# Altium integrated library NXP Semiconductors Standard MOSFETs.IntLib: 477 symbols (part 6 of 14)
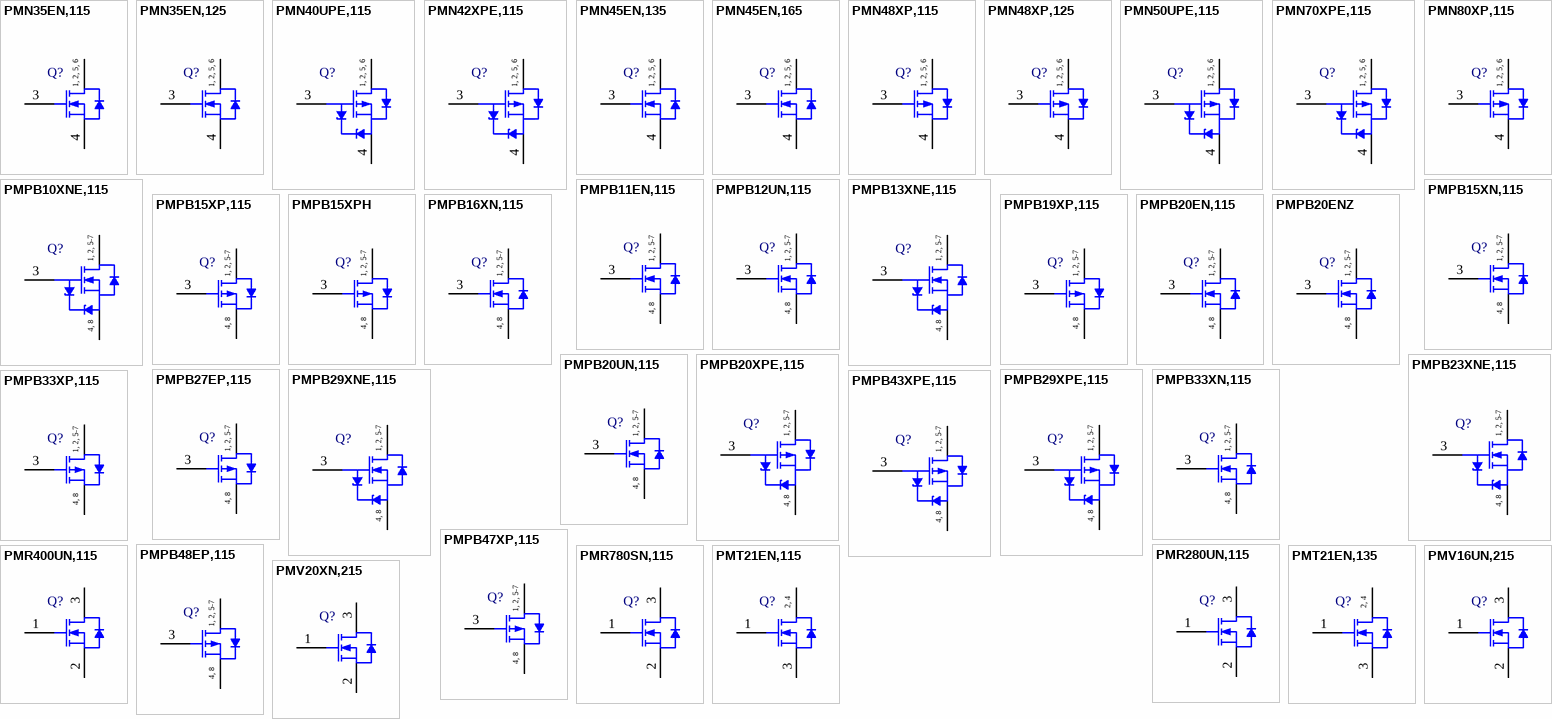
[diagram p17: symbols PMN35EN,115 to PMV20XN,215]

## PMN40UPE,115
designator Q?
Single P-Channel Trench MOSFET, -20 V, -55 to 150 degC, 6-Pin SOT457, Tape and Reel; Manufacturer: NXP Semiconductors; PartNumber: PMN40UPE,115; Channel Type: P; Ciss [typ] (pF): 1820; Coss [typ] (pF): 207; Packing: Tape & Reel; VGSth [typ] (V): -0.7; DatasheetVersion: Rev. 1; PackageVersion: 06-03-16, 03/2006; PackageReference: SOT457; PackageDescription: 6-Pin Thin Small Outline Package, Body 2.9 x 1.5 mm, Pitch 0.95 mm; Supplier 1: Digi-Key; Supplier Part Number 1: 568-10801-2-ND; Supplier 2: Digi-Key; Supplier Part Number 2: 568-10801-1-ND; Supplier 3: Digi-Key; Supplier Part Number 3: 568-10801-6-ND; Supplier 4: Mouser; Supplier Part Number 4: 771-PMN40UPE115; VDS [max] (V): -20; Mounting Technology: Surface Mount; Code_JEITA: SC-74; ComponentLink1Description: Manufacturer URL; ComponentLink1URL: http://www.nxp.com/; ComponentLink2Description: Datasheet; ComponentLink2URL: http://www.nxp.com/documents/data_sheet/PMN40UPE.pdf; ComponentLink3Description: Package Specification; ComponentLink3URL: http://www.nxp.com/documents/outline_drawing/sot457_po.pdf
footprint NXP-SOT457_N (SOP, 6-Leads, Body 3.1x1.7mm, Pitch 0.95mm, IPC Medium Density)
footprint NXP-SOT457_L (SOP, 6-Leads, Body 3.1x1.7mm, Pitch 0.95mm, IPC High Density)
footprint NXP-SOT457_M (SOP, 6-Leads, Body 3.1x1.7mm, Pitch 0.95mm, IPC Low Density)
pins: 1 D "drain", 2 D "drain", 3 G "gate", 4 S "source", 5 D "drain", 6 D "drain"
text: 1, 2, 5, 6

## PMN42XPE,115
designator Q?
Single P-Channel Trench MOSFET, -20 V, -55 to 150 degC, 6-Pin SOT457, Tape and Reel; Manufacturer: NXP Semiconductors; PartNumber: PMN42XPE,115; Channel Type: P; Ciss [typ] (pF): 1410; Coss [typ] (pF): 207; Packing: Tape & Reel; VGSth [typ] (V): -1; DatasheetVersion: Rev. 1; PackageVersion: 06-03-16, 03/2006; PackageReference: SOT457; PackageDescription: 6-Pin Thin Small Outline Package, Body 2.9 x 1.5 mm, Pitch 0.95 mm; Supplier 1: Digi-Key; Supplier Part Number 1: 568-10802-2-ND; Supplier 2: Digi-Key; Supplier Part Number 2: 568-10802-1-ND; Supplier 3: Digi-Key; Supplier Part Number 3: 568-10802-6-ND; Supplier 4: Mouser; Supplier Part Number 4: 771-PMN42XPE115; VDS [max] (V): -20; Mounting Technology: Surface Mount; Code_JEITA: SC-74; ComponentLink1Description: Manufacturer URL; ComponentLink1URL: http://www.nxp.com/; ComponentLink2Description: Datasheet; ComponentLink2URL: http://www.nxp.com/documents/data_sheet/PMN42XPE.pdf; ComponentLink3Description: Package Specification; ComponentLink3URL: http://www.nxp.com/documents/outline_drawing/sot457_po.pdf
footprint NXP-SOT457_N (SOP, 6-Leads, Body 3.1x1.7mm, Pitch 0.95mm, IPC Medium Density)
footprint NXP-SOT457_L (SOP, 6-Leads, Body 3.1x1.7mm, Pitch 0.95mm, IPC High Density)
footprint NXP-SOT457_M (SOP, 6-Leads, Body 3.1x1.7mm, Pitch 0.95mm, IPC Low Density)
pins: 1 D "drain", 2 D "drain", 3 G "gate", 4 S "source", 5 D "drain", 6 D "drain"
text: 1, 2, 5, 6

## PMN45EN,135
designator Q?
N-Channel TrenchMOS(TM) Enhanced Logic Level FET, 30 V, 5.2 A, 6-Pin SOT457, Tape and Reel; Manufacturer: NXP Semiconductors; PartNumber: PMN45EN,135; Channel Type: N; Ciss [typ] (pF): 495; Coss [typ] (pF): 100; ID [max] (A): 5.2; Packing: Tape & Reel; VDS [max] (V): 30; VGSth [typ] (V): 1.5; DatasheetVersion: Rev. 01; PackageVersion: 06-03-16, 03/2006; PackageReference: SOT457; PackageDescription: 6-Pin Thin Small Outline Package, Body 2.9 x 1.5 mm, Pitch 0.95 mm; Supplier 1: Digi-Key; Supplier Part Number 1: 568-7423-2-ND; Supplier 2: Digi-Key; Supplier Part Number 2: 568-7423-1-ND; Supplier 3: Digi-Key; Supplier Part Number 3: 568-7423-6-ND; Supplier 4: Farnell; Supplier Part Number 4: 1758108; Supplier 5: Newark; Supplier Part Number 5: 79R2039; Supplier 6: Mouser; Supplier Part Number 6: 771-PMN45EN135; Mounting Technology: Surface Mount; Code_JEITA: SC-74; ComponentLink1Description: Manufacturer URL; ComponentLink1URL: http://www.nxp.com/; ComponentLink2Description: Datasheet; ComponentLink2URL: http://www.nxp.com/documents/data_sheet/PMN45EN.pdf; ComponentLink3Description: Package Specification; ComponentLink3URL: http://www.nxp.com/documents/outline_drawing/sot457_po.pdf
footprint NXP-SOT457_N (SOP, 6-Leads, Body 3.1x1.7mm, Pitch 0.95mm, IPC Medium Density)
footprint NXP-SOT457_L (SOP, 6-Leads, Body 3.1x1.7mm, Pitch 0.95mm, IPC High Density)
footprint NXP-SOT457_M (SOP, 6-Leads, Body 3.1x1.7mm, Pitch 0.95mm, IPC Low Density)
pins: 1 D "drain", 2 D "drain", 3 G "gate", 4 S "source", 5 D "drain", 6 D "drain"
text: 1, 2, 5, 6

## PMN45EN,165
designator Q?
N-Channel TrenchMOS(TM) Enhanced Logic Level FET, 30 V, 5.2 A, 6-Pin SOT457, Tape and Reel; Manufacturer: NXP Semiconductors; PartNumber: PMN45EN,165; Channel Type: N; Ciss [typ] (pF): 495; Coss [typ] (pF): 100; ID [max] (A): 5.2; Packing: Tape & Reel; VDS [max] (V): 30; VGSth [typ] (V): 1.5; DatasheetVersion: Rev. 01; PackageVersion: 06-03-16, 03/2006; PackageReference: SOT457; PackageDescription: 6-Pin Thin Small Outline Package, Body 2.9 x 1.5 mm, Pitch 0.95 mm; Supplier 1: Digi-Key; Supplier Part Number 1: PMN45EN,165-ND; Supplier 2: Mouser; Supplier Part Number 2: 771-PMN45EN165; Mounting Technology: Surface Mount; Code_JEITA: SC-74; ComponentLink1Description: Manufacturer URL; ComponentLink1URL: http://www.nxp.com/; ComponentLink2Description: Datasheet; ComponentLink2URL: http://www.nxp.com/documents/data_sheet/PMN45EN.pdf; ComponentLink3Description: Package Specification; ComponentLink3URL: http://www.nxp.com/documents/outline_drawing/sot457_po.pdf
footprint NXP-SOT457_N (SOP, 6-Leads, Body 3.1x1.7mm, Pitch 0.95mm, IPC Medium Density)
footprint NXP-SOT457_L (SOP, 6-Leads, Body 3.1x1.7mm, Pitch 0.95mm, IPC High Density)
footprint NXP-SOT457_M (SOP, 6-Leads, Body 3.1x1.7mm, Pitch 0.95mm, IPC Low Density)
pins: 1 D "drain", 2 D "drain", 3 G "gate", 4 S "source", 5 D "drain", 6 D "drain"
text: 1, 2, 5, 6

## PMN48XP,115
designator Q?
P-Channel Trench MOSFET, -20 V, -4.1 A, -55 to 150 degC, 6-Pin SOT457, Tape and Reel; Manufacturer: NXP Semiconductors; PartNumber: PMN48XP,115; Channel Type: P; Ciss [typ] (pF): 1000; Coss [typ] (pF): 130; Packing: Tape & Reel; VGSth [typ] (V): -1; DatasheetVersion: Rev. 1; PackageVersion: 06-03-16, 03/2006; PackageReference: SOT457; PackageDescription: 6-Pin Thin Small Outline Package, Body 2.9 x 1.5 mm, Pitch 0.95 mm; Supplier 1: Digi-Key; Supplier Part Number 1: 568-8412-2-ND; Supplier 2: Digi-Key; Supplier Part Number 2: 568-8412-1-ND; Supplier 3: Digi-Key; Supplier Part Number 3: 568-8412-6-ND; Supplier 4: Mouser; Supplier Part Number 4: 771-PMN48XP115; ID [max] (A): -4.1; VDS [max] (V): -20; Mounting Technology: Surface Mount; Code_JEITA: SC-74; ComponentLink1Description: Manufacturer URL; ComponentLink1URL: http://www.nxp.com/; ComponentLink2Description: Datasheet; ComponentLink2URL: http://www.nxp.com/documents/data_sheet/PMN48XP.pdf; ComponentLink3Description: Package Specification; ComponentLink3URL: http://www.nxp.com/documents/outline_drawing/sot457_po.pdf
footprint NXP-SOT457_N (SOP, 6-Leads, Body 3.1x1.7mm, Pitch 0.95mm, IPC Medium Density)
footprint NXP-SOT457_L (SOP, 6-Leads, Body 3.1x1.7mm, Pitch 0.95mm, IPC High Density)
footprint NXP-SOT457_M (SOP, 6-Leads, Body 3.1x1.7mm, Pitch 0.95mm, IPC Low Density)
pins: 1 D "drain", 2 D "drain", 3 G "gate", 4 S "source", 5 D "drain", 6 D "drain"
text: 1, 2, 5, 6

## PMN48XP,125
designator Q?
P-Channel Trench MOSFET, -20 V, -4.1 A, -55 to 150 degC, 6-Pin SOT457, Tape and Reel; Manufacturer: NXP Semiconductors; PartNumber: PMN48XP,125; Channel Type: P; Ciss [typ] (pF): 1000; Coss [typ] (pF): 130; Packing: Tape & Reel; VGSth [typ] (V): -1; DatasheetVersion: Rev. 1; PackageVersion: 06-03-16, 03/2006; PackageReference: SOT457; PackageDescription: 6-Pin Thin Small Outline Package, Body 2.9 x 1.5 mm, Pitch 0.95 mm; Supplier 1: Digi-Key; Supplier Part Number 1: 568-10803-2-ND; Supplier 2: Digi-Key; Supplier Part Number 2: 568-10803-1-ND; Supplier 3: Digi-Key; Supplier Part Number 3: 568-10803-6-ND; Supplier 4: Mouser; Supplier Part Number 4: 771-PMN48XP,125; ID [max] (A): -4.1; VDS [max] (V): -20; Mounting Technology: Surface Mount; Code_JEITA: SC-74; ComponentLink1Description: Manufacturer URL; ComponentLink1URL: http://www.nxp.com/; ComponentLink2Description: Datasheet; ComponentLink2URL: http://www.nxp.com/documents/data_sheet/PMN48XP.pdf; ComponentLink3Description: Package Specification; ComponentLink3URL: http://www.nxp.com/documents/outline_drawing/sot457_po.pdf
footprint NXP-SOT457_N (SOP, 6-Leads, Body 3.1x1.7mm, Pitch 0.95mm, IPC Medium Density)
footprint NXP-SOT457_L (SOP, 6-Leads, Body 3.1x1.7mm, Pitch 0.95mm, IPC High Density)
footprint NXP-SOT457_M (SOP, 6-Leads, Body 3.1x1.7mm, Pitch 0.95mm, IPC Low Density)
pins: 1 D "drain", 2 D "drain", 3 G "gate", 4 S "source", 5 D "drain", 6 D "drain"
text: 1, 2, 5, 6

## PMN50UPE,115
designator Q?
Single P-Channel Trench MOSFET, -20 V, -55 to 150 degC, 6-Pin SOT457, Tape and Reel; Manufacturer: NXP Semiconductors; PartNumber: PMN50UPE,115; Channel Type: P; Ciss [typ] (pF): 24; Coss [typ] (pF): 106; Packing: Tape & Reel; VGSth [typ] (V): -0.6; DatasheetVersion: Rev. 1; PackageVersion: 06-03-16, 03/2006; PackageReference: SOT457; PackageDescription: 6-Pin Thin Small Outline Package, Body 2.9 x 1.5 mm, Pitch 0.95 mm; Supplier 1: Digi-Key; Supplier Part Number 1: 568-10804-2-ND; Supplier 2: Digi-Key; Supplier Part Number 2: 568-10804-1-ND; Supplier 3: Digi-Key; Supplier Part Number 3: 568-10804-6-ND; Supplier 4: Mouser; Supplier Part Number 4: 771-PMN50UPE115; VDS [max] (V): -20; Mounting Technology: Surface Mount; Code_JEITA: SC-74; ComponentLink1Description: Manufacturer URL; ComponentLink1URL: http://www.nxp.com/; ComponentLink2Description: Datasheet; ComponentLink2URL: http://www.nxp.com/documents/data_sheet/PMN50UPE.pdf; ComponentLink3Description: Package Specification; ComponentLink3URL: http://www.nxp.com/documents/outline_drawing/sot457_po.pdf
footprint NXP-SOT457_N (SOP, 6-Leads, Body 3.1x1.7mm, Pitch 0.95mm, IPC Medium Density)
footprint NXP-SOT457_L (SOP, 6-Leads, Body 3.1x1.7mm, Pitch 0.95mm, IPC High Density)
footprint NXP-SOT457_M (SOP, 6-Leads, Body 3.1x1.7mm, Pitch 0.95mm, IPC Low Density)
pins: 1 D "drain", 2 D "drain", 3 G "gate", 4 S "source", 5 D "drain", 6 D "drain"
text: 1, 2, 5, 6

## PMN70XPE,115
designator Q?
Single P-Channel Trench MOSFET, -20 V, -55 to 150 degC, 6-Pin SOT457, Tape and Reel; Manufacturer: NXP Semiconductors; PartNumber: PMN70XPE,115; Channel Type: P; Ciss [typ] (pF): 602; Coss [typ] (pF): 101; Packing: Tape & Reel; VGSth [typ] (V): -1; DatasheetVersion: Rev. 1; PackageVersion: 06-03-16, 03/2006; PackageReference: SOT457; PackageDescription: 6-Pin Thin Small Outline Package, Body 2.9 x 1.5 mm, Pitch 0.95 mm; Supplier 1: Digi-Key; Supplier Part Number 1: 568-10805-2-ND; Supplier 2: Digi-Key; Supplier Part Number 2: 568-10805-1-ND; Supplier 3: Digi-Key; Supplier Part Number 3: 568-10805-6-ND; Supplier 4: Mouser; Supplier Part Number 4: 771-PMN70XPE115; VDS [max] (V): -20; Mounting Technology: Surface Mount; Code_JEITA: SC-74; ComponentLink1Description: Manufacturer URL; ComponentLink1URL: http://www.nxp.com/; ComponentLink2Description: Datasheet; ComponentLink2URL: http://www.nxp.com/documents/data_sheet/PMN70XPE.pdf; ComponentLink3Description: Package Specification; ComponentLink3URL: http://www.nxp.com/documents/outline_drawing/sot457_po.pdf
footprint NXP-SOT457_N (SOP, 6-Leads, Body 3.1x1.7mm, Pitch 0.95mm, IPC Medium Density)
footprint NXP-SOT457_L (SOP, 6-Leads, Body 3.1x1.7mm, Pitch 0.95mm, IPC High Density)
footprint NXP-SOT457_M (SOP, 6-Leads, Body 3.1x1.7mm, Pitch 0.95mm, IPC Low Density)
pins: 1 D "drain", 2 D "drain", 3 G "gate", 4 S "source", 5 D "drain", 6 D "drain"
text: 1, 2, 5, 6

## PMN80XP,115
designator Q?
Single P-Channel Trench MOSFET, -20 V, -55 to 150 degC, 6-Pin SOT457, Tape and Reel; Manufacturer: NXP Semiconductors; PartNumber: PMN80XP,115; Channel Type: P; Ciss [typ] (pF): 550; Coss [typ] (pF): 63; Packing: Tape & Reel; VGSth [typ] (V): -0.75; DatasheetVersion: Rev. 1; PackageVersion: 06-03-16, 03/2006; PackageReference: SOT457; PackageDescription: 6-Pin Thin Small Outline Package, Body 2.9 x 1.5 mm, Pitch 0.95 mm; Supplier 1: Digi-Key; Supplier Part Number 1: 568-10806-2-ND; Supplier 2: Digi-Key; Supplier Part Number 2: 568-10806-1-ND; Supplier 3: Digi-Key; Supplier Part Number 3: 568-10806-6-ND; Supplier 4: Mouser; Supplier Part Number 4: 771-PMN80XP,115; VDS [max] (V): -20; Mounting Technology: Surface Mount; Code_JEITA: SC-74; ComponentLink1Description: Manufacturer URL; ComponentLink1URL: http://www.nxp.com/; ComponentLink2Description: Datasheet; ComponentLink2URL: http://www.nxp.com/documents/data_sheet/PMN80XP.pdf; ComponentLink3Description: Package Specification; ComponentLink3URL: http://www.nxp.com/documents/outline_drawing/sot457_po.pdf
footprint NXP-SOT457_N (SOP, 6-Leads, Body 3.1x1.7mm, Pitch 0.95mm, IPC Medium Density)
footprint NXP-SOT457_L (SOP, 6-Leads, Body 3.1x1.7mm, Pitch 0.95mm, IPC High Density)
footprint NXP-SOT457_M (SOP, 6-Leads, Body 3.1x1.7mm, Pitch 0.95mm, IPC Low Density)
pins: 1 D "drain", 2 D "drain", 3 G "gate", 4 S "source", 5 D "drain", 6 D "drain"
text: 1, 2, 5, 6

## PMPB10XNE,115
designator Q?
Single N-Channel Trench MOSFET, 20 V, -55 to 150 degC, 8-Pin SOT1220, Reel; Manufacturer: NXP Semiconductors; PartNumber: PMPB10XNE,115; Channel Type: N; Ciss [typ] (pF): 2175; Coss [typ] (pF): 235; VDS [max] (V): 20; VGSth [typ] (V): 0.65; DatasheetVersion: Rev. 1; PackageVersion: 12-04-30, 04/2012; PackageReference: SOT1220; PackageDescription: 6-Pin Small Outline No-Lead, Body 2 x 2 mm, Pitch 0.65 mm; Supplier 1: Digi-Key; Supplier Part Number 1: 568-10807-2-ND; Supplier 2: Digi-Key; Supplier Part Number 2: 568-10807-1-ND; Supplier 3: Digi-Key; Supplier Part Number 3: 568-10807-6-ND; Supplier 4: Newark; Supplier Part Number 4: 70W0371; Supplier 5: Mouser; Supplier Part Number 5: 771-PMPB10XNE115; Packing: Reel; Mounting Technology: Surface Mount; ComponentLink1Description: Manufacturer URL; ComponentLink1URL: http://www.nxp.com/; ComponentLink2Description: Datasheet; ComponentLink2URL: http://www.nxp.com/documents/data_sheet/PMPB10XNE.pdf; ComponentLink3Description: Package Specification; ComponentLink3URL: http://www.nxp.com/documents/outline_drawing/sot1220_po.pdf
footprint NXP-SOT1220_N (SON, 6-Leads, Body 2.1x2.1mm, Pitch 0.65mm, IPC Medium Density)
footprint NXP-SOT1220_L (SON, 6-Leads, Body 2.1x2.1mm, Pitch 0.65mm, IPC High Density)
footprint NXP-SOT1220_M (SON, 6-Leads, Body 2.1x2.1mm, Pitch 0.65mm, IPC Low Density)
pins: 1 D "drain", 2 D "drain", 3 G "gate", 4 S "source", 5 D "drain", 6 D "drain", 7 D "drain", 8 S "source"
text: 1, 2, 5-7; 4, 8

## PMPB11EN,115
designator Q?
N-Channel Trench MOSFET, 30 V, -55 to 150 degC, 8-Pin SOT1220, Reel; Manufacturer: NXP Semiconductors; PartNumber: PMPB11EN,115; Channel Type: N; Ciss [typ] (pF): 840; Coss [typ] (pF): 155; VDS [max] (V): 30; VGSth [typ] (V): 1.5; DatasheetVersion: Rev. 2; PackageVersion: 12-04-30, 04/2012; PackageReference: SOT1220; PackageDescription: 6-Pin Small Outline No-Lead, Body 2 x 2 mm, Pitch 0.65 mm; Supplier 1: Digi-Key; Supplier Part Number 1: 568-10450-2-ND; Supplier 2: Digi-Key; Supplier Part Number 2: 568-10450-1-ND; Supplier 3: Digi-Key; Supplier Part Number 3: 568-10450-6-ND; Supplier 4: Mouser; Supplier Part Number 4: 771-PMPB11EN,115; Packing: Reel; Mounting Technology: Surface Mount; ComponentLink1Description: Manufacturer URL; ComponentLink1URL: http://www.nxp.com/; ComponentLink2Description: Datasheet; ComponentLink2URL: http://www.nxp.com/documents/data_sheet/PMPB11EN.pdf; ComponentLink3Description: Package Specification; ComponentLink3URL: http://www.nxp.com/documents/outline_drawing/sot1220_po.pdf
footprint NXP-SOT1220_N (SON, 6-Leads, Body 2.1x2.1mm, Pitch 0.65mm, IPC Medium Density)
footprint NXP-SOT1220_L (SON, 6-Leads, Body 2.1x2.1mm, Pitch 0.65mm, IPC High Density)
footprint NXP-SOT1220_M (SON, 6-Leads, Body 2.1x2.1mm, Pitch 0.65mm, IPC Low Density)
pins: 1 D "drain", 2 D "drain", 3 G "gate", 4 S "source", 5 D "drain", 6 D "drain", 7 D "drain", 8 S "source"
text: 1, 2, 5-7; 4, 8

## PMPB12UN,115
designator Q?
Single N-Channel Trench MOSFET, 20 V, -55 to 150 degC, 8-Pin SOT1220, Reel; Manufacturer: NXP Semiconductors; PartNumber: PMPB12UN,115; Channel Type: N; Ciss [typ] (pF): 886; Coss [typ] (pF): 233; VDS [max] (V): 20; VGSth [typ] (V): 0.7; DatasheetVersion: Rev. 1; PackageVersion: 12-04-30, 04/2012; PackageReference: SOT1220; PackageDescription: 6-Pin Small Outline No-Lead, Body 2 x 2 mm, Pitch 0.65 mm; Supplier 1: Digi-Key; Supplier Part Number 1: 568-10451-2-ND; Supplier 2: Digi-Key; Supplier Part Number 2: 568-10451-1-ND; Supplier 3: Digi-Key; Supplier Part Number 3: 568-10451-6-ND; Supplier 4: Newark; Supplier Part Number 4: 45W9011; Supplier 5: Mouser; Supplier Part Number 5: 771-PMPB12UN115; Packing: Reel; Mounting Technology: Surface Mount; ComponentLink1Description: Manufacturer URL; ComponentLink1URL: http://www.nxp.com/; ComponentLink2Description: Datasheet; ComponentLink2URL: http://www.nxp.com/documents/data_sheet/PMPB12UN.pdf; ComponentLink3Description: Package Specification; ComponentLink3URL: http://www.nxp.com/documents/outline_drawing/sot1220_po.pdf
footprint NXP-SOT1220_N (SON, 6-Leads, Body 2.1x2.1mm, Pitch 0.65mm, IPC Medium Density)
footprint NXP-SOT1220_L (SON, 6-Leads, Body 2.1x2.1mm, Pitch 0.65mm, IPC High Density)
footprint NXP-SOT1220_M (SON, 6-Leads, Body 2.1x2.1mm, Pitch 0.65mm, IPC Low Density)
pins: 1 D "drain", 2 D "drain", 3 G "gate", 4 S "source", 5 D "drain", 6 D "drain", 7 D "drain", 8 S "source"
text: 1, 2, 5-7; 4, 8

## PMPB13XNE,115
designator Q?
Single N-Channel Trench MOSFET, 30 V, -55 to 150 degC, 8-Pin SOT1220, Reel; Manufacturer: NXP Semiconductors; PartNumber: PMPB13XNE,115; Channel Type: N; Ciss [typ] (pF): 2195; Coss [typ] (pF): 155; VDS [max] (V): 30; VGSth [typ] (V): 0.65; DatasheetVersion: Rev. 1; PackageVersion: 12-04-30, 04/2012; PackageReference: SOT1220; PackageDescription: 6-Pin Small Outline No-Lead, Body 2 x 2 mm, Pitch 0.65 mm; Supplier 1: Digi-Key; Supplier Part Number 1: 568-10810-2-ND; Supplier 2: Digi-Key; Supplier Part Number 2: 568-10810-1-ND; Supplier 3: Digi-Key; Supplier Part Number 3: 568-10810-6-ND; Supplier 4: Mouser; Supplier Part Number 4: 771-PMPB13XNE115; Packing: Reel; Mounting Technology: Surface Mount; ComponentLink1Description: Manufacturer URL; ComponentLink1URL: http://www.nxp.com/; ComponentLink2Description: Datasheet; ComponentLink2URL: http://www.nxp.com/documents/data_sheet/PMPB13XNE.pdf; ComponentLink3Description: Package Specification; ComponentLink3URL: http://www.nxp.com/documents/outline_drawing/sot1220_po.pdf
footprint NXP-SOT1220_N (SON, 6-Leads, Body 2.1x2.1mm, Pitch 0.65mm, IPC Medium Density)
footprint NXP-SOT1220_L (SON, 6-Leads, Body 2.1x2.1mm, Pitch 0.65mm, IPC High Density)
footprint NXP-SOT1220_M (SON, 6-Leads, Body 2.1x2.1mm, Pitch 0.65mm, IPC Low Density)
pins: 1 D "drain", 2 D "drain", 3 G "gate", 4 S "source", 5 D "drain", 6 D "drain", 7 D "drain", 8 S "source"
text: 1, 2, 5-7; 4, 8

## PMPB15XN,115
designator Q?
Single N-Channel Trench MOSFET, 20 V, -55 to 150 degC, 8-Pin SOT1220, Reel; Manufacturer: NXP Semiconductors; PartNumber: PMPB15XN,115; Channel Type: N; Ciss [typ] (pF): 1240; Coss [typ] (pF): 145; VDS [max] (V): 20; VGSth [typ] (V): 0.65; DatasheetVersion: Rev. 1; PackageVersion: 12-04-30, 04/2012; PackageReference: SOT1220; PackageDescription: 6-Pin Small Outline No-Lead, Body 2 x 2 mm, Pitch 0.65 mm; Supplier 1: Digi-Key; Supplier Part Number 1: 568-10452-2-ND; Supplier 2: Digi-Key; Supplier Part Number 2: 568-10452-1-ND; Supplier 3: Digi-Key; Supplier Part Number 3: 568-10452-6-ND; Supplier 4: Mouser; Supplier Part Number 4: 771-PMPB15XN115; Packing: Reel; Mounting Technology: Surface Mount; ComponentLink1Description: Manufacturer URL; ComponentLink1URL: http://www.nxp.com/; ComponentLink2Description: Datasheet; ComponentLink2URL: http://www.nxp.com/documents/data_sheet/PMPB15XN.pdf; ComponentLink3Description: Package Specification; ComponentLink3URL: http://www.nxp.com/documents/outline_drawing/sot1220_po.pdf
footprint NXP-SOT1220_N (SON, 6-Leads, Body 2.1x2.1mm, Pitch 0.65mm, IPC Medium Density)
footprint NXP-SOT1220_L (SON, 6-Leads, Body 2.1x2.1mm, Pitch 0.65mm, IPC High Density)
footprint NXP-SOT1220_M (SON, 6-Leads, Body 2.1x2.1mm, Pitch 0.65mm, IPC Low Density)
pins: 1 D "drain", 2 D "drain", 3 G "gate", 4 S "source", 5 D "drain", 6 D "drain", 7 D "drain", 8 S "source"
text: 1, 2, 5-7; 4, 8

## PMPB15XP,115
designator Q?
Single P-Channel Trench MOSFET, -12 V, -55 to 150 degC, 8-Pin SOT1220, Reel; Manufacturer: NXP Semiconductors; PartNumber: PMPB15XP,115; Channel Type: P; Ciss [typ] (pF): 2875; Coss [typ] (pF): 570; VGSth [typ] (V): -0.68; DatasheetVersion: Rev. 3; PackageVersion: 12-04-30, 04/2012; PackageReference: SOT1220; PackageDescription: 6-Pin Small Outline No-Lead, Body 2 x 2 mm, Pitch 0.65 mm; Supplier 1: Digi-Key; Supplier Part Number 1: 568-10453-2-ND; Supplier 2: Digi-Key; Supplier Part Number 2: 568-10453-1-ND; Supplier 3: Digi-Key; Supplier Part Number 3: 568-10453-6-ND; Supplier 4: Mouser; Supplier Part Number 4: 771-PMPB15XP115; Packing: Reel; VDS [max] (V): -12; Mounting Technology: Surface Mount; ComponentLink1Description: Manufacturer URL; ComponentLink1URL: http://www.nxp.com/; ComponentLink2Description: Datasheet; ComponentLink2URL: http://www.nxp.com/documents/data_sheet/PMPB15XP.PDF; ComponentLink3Description: Package Specification; ComponentLink3URL: http://www.nxp.com/documents/outline_drawing/sot1220_po.pdf
footprint NXP-SOT1220_N (SON, 6-Leads, Body 2.1x2.1mm, Pitch 0.65mm, IPC Medium Density)
footprint NXP-SOT1220_L (SON, 6-Leads, Body 2.1x2.1mm, Pitch 0.65mm, IPC High Density)
footprint NXP-SOT1220_M (SON, 6-Leads, Body 2.1x2.1mm, Pitch 0.65mm, IPC Low Density)
pins: 1 D "drain", 2 D "drain", 3 G "gate", 4 S "source", 5 D "drain", 6 D "drain", 7 D "drain", 8 S "source"
text: 1, 2, 5-7; 4, 8

## PMPB15XPH
designator Q?
Single P-Channel Trench MOSFET, -12 V, -11.8 A, -55 to 150 degC, 8-Pin SOT1220, Reel; Manufacturer: NXP Semiconductors; PartNumber: PMPB15XPH; Channel Type: P; Ciss [typ] (pF): 2875; Coss [typ] (pF): 570; VGSth [typ] (V): -0.68; DatasheetVersion: Rev. 3; PackageVersion: 12-04-30, 04/2012; PackageReference: SOT1220; PackageDescription: 6-Pin Small Outline No-Lead, Body 2 x 2 mm, Pitch 0.65 mm; Supplier 1: Digi-Key; Supplier Part Number 1: 568-10812-2-ND; Supplier 2: Digi-Key; Supplier Part Number 2: 568-10812-1-ND; Supplier 3: Digi-Key; Supplier Part Number 3: 568-10812-6-ND; Supplier 4: Mouser; Supplier Part Number 4: 771-PMPB15XPH; Packing: Reel; VDS [max] (V): -12; Mounting Technology: Surface Mount; ComponentLink1Description: Manufacturer URL; ComponentLink1URL: http://www.nxp.com/; ComponentLink2Description: Datasheet; ComponentLink2URL: http://www.nxp.com/documents/data_sheet/PMPB15XP.PDF; ComponentLink3Description: Package Specification; ComponentLink3URL: http://www.nxp.com/documents/outline_drawing/sot1220_po.pdf
footprint NXP-SOT1220_N (SON, 6-Leads, Body 2.1x2.1mm, Pitch 0.65mm, IPC Medium Density)
footprint NXP-SOT1220_L (SON, 6-Leads, Body 2.1x2.1mm, Pitch 0.65mm, IPC High Density)
footprint NXP-SOT1220_M (SON, 6-Leads, Body 2.1x2.1mm, Pitch 0.65mm, IPC Low Density)
pins: 1 D "drain", 2 D "drain", 3 G "gate", 4 S "source", 5 D "drain", 6 D "drain", 7 D "drain", 8 S "source"
text: 1, 2, 5-7; 4, 8

## PMPB16XN,115
designator Q?
Single N-Channel Trench MOSFET, 30 V, -55 to 150 degC, 8-Pin SOT1220, Reel; Manufacturer: NXP Semiconductors; PartNumber: PMPB16XN,115; Channel Type: N; Ciss [typ] (pF): 775; Coss [typ] (pF): 155; VDS [max] (V): 30; VGSth [typ] (V): 1; DatasheetVersion: Rev. 1; PackageVersion: 12-04-30, 04/2012; PackageReference: SOT1220; PackageDescription: 6-Pin Small Outline No-Lead, Body 2 x 2 mm, Pitch 0.65 mm; Supplier 1: Digi-Key; Supplier Part Number 1: 568-10454-2-ND; Supplier 2: Digi-Key; Supplier Part Number 2: 568-10454-1-ND; Supplier 3: Digi-Key; Supplier Part Number 3: 568-10454-6-ND; Supplier 4: Mouser; Supplier Part Number 4: 771-PMPB16XN115; Packing: Reel; Mounting Technology: Surface Mount; ComponentLink1Description: Manufacturer URL; ComponentLink1URL: http://www.nxp.com/; ComponentLink2Description: Datasheet; ComponentLink2URL: http://www.nxp.com/documents/data_sheet/PMPB16XN.pdf; ComponentLink3Description: Package Specification; ComponentLink3URL: http://www.nxp.com/documents/outline_drawing/sot1220_po.pdf
footprint NXP-SOT1220_N (SON, 6-Leads, Body 2.1x2.1mm, Pitch 0.65mm, IPC Medium Density)
footprint NXP-SOT1220_L (SON, 6-Leads, Body 2.1x2.1mm, Pitch 0.65mm, IPC High Density)
footprint NXP-SOT1220_M (SON, 6-Leads, Body 2.1x2.1mm, Pitch 0.65mm, IPC Low Density)
pins: 1 D "drain", 2 D "drain", 3 G "gate", 4 S "source", 5 D "drain", 6 D "drain", 7 D "drain", 8 S "source"
text: 1, 2, 5-7; 4, 8

## PMPB19XP,115
designator Q?
Single P-Channel Trench MOSFET, -20 V, -55 to 150 degC, 8-Pin SOT1220, Reel; Manufacturer: NXP Semiconductors; PartNumber: PMPB19XP,115; Channel Type: P; Ciss [typ] (pF): 2890; Coss [typ] (pF): 250; VGSth [typ] (V): -0.68; DatasheetVersion: Rev. 1; PackageVersion: 12-04-30, 04/2012; PackageReference: SOT1220; PackageDescription: 6-Pin Small Outline No-Lead, Body 2 x 2 mm, Pitch 0.65 mm; Supplier 1: Digi-Key; Supplier Part Number 1: 568-10814-2-ND; Supplier 2: Digi-Key; Supplier Part Number 2: 568-10814-1-ND; Supplier 3: Digi-Key; Supplier Part Number 3: 568-10814-6-ND; Supplier 4: Mouser; Supplier Part Number 4: 771-PMPB19XP115; Packing: Reel; VDS [max] (V): -20; Mounting Technology: Surface Mount; ComponentLink1Description: Manufacturer URL; ComponentLink1URL: http://www.nxp.com/; ComponentLink2Description: Datasheet; ComponentLink2URL: http://www.nxp.com/documents/data_sheet/PMPB19XP.pdf; ComponentLink3Description: Package Specification; ComponentLink3URL: http://www.nxp.com/documents/outline_drawing/sot1220_po.pdf
footprint NXP-SOT1220_N (SON, 6-Leads, Body 2.1x2.1mm, Pitch 0.65mm, IPC Medium Density)
footprint NXP-SOT1220_L (SON, 6-Leads, Body 2.1x2.1mm, Pitch 0.65mm, IPC High Density)
footprint NXP-SOT1220_M (SON, 6-Leads, Body 2.1x2.1mm, Pitch 0.65mm, IPC Low Density)
pins: 1 D "drain", 2 D "drain", 3 G "gate", 4 S "source", 5 D "drain", 6 D "drain", 7 D "drain", 8 S "source"
text: 1, 2, 5-7; 4, 8

## PMPB20EN,115
designator Q?
N-Channel Trench MOSFET, 30 V, -55 to 150 degC, 8-Pin SOT1220, Reel; Manufacturer: NXP Semiconductors; PartNumber: PMPB20EN,115; Channel Type: N; Ciss [typ] (pF): 435; Coss [typ] (pF): 90; VDS [max] (V): 30; VGSth [typ] (V): 1.5; DatasheetVersion: Rev. 2; PackageVersion: 12-04-30, 04/2012; PackageReference: SOT1220; PackageDescription: 6-Pin Small Outline No-Lead, Body 2 x 2 mm, Pitch 0.65 mm; Supplier 1: Digi-Key; Supplier Part Number 1: 568-10455-2-ND; Supplier 2: Digi-Key; Supplier Part Number 2: 568-10455-1-ND; Supplier 3: Digi-Key; Supplier Part Number 3: 568-10455-6-ND; Supplier 4: Mouser; Supplier Part Number 4: 771-PMPB20EN,115; Packing: Reel; Mounting Technology: Surface Mount; ComponentLink1Description: Manufacturer URL; ComponentLink1URL: http://www.nxp.com/; ComponentLink2Description: Datasheet; ComponentLink2URL: http://www.nxp.com/documents/data_sheet/PMPB20EN.pdf; ComponentLink3Description: Package Specification; ComponentLink3URL: http://www.nxp.com/documents/outline_drawing/sot1220_po.pdf
footprint NXP-SOT1220_N (SON, 6-Leads, Body 2.1x2.1mm, Pitch 0.65mm, IPC Medium Density)
footprint NXP-SOT1220_L (SON, 6-Leads, Body 2.1x2.1mm, Pitch 0.65mm, IPC High Density)
footprint NXP-SOT1220_M (SON, 6-Leads, Body 2.1x2.1mm, Pitch 0.65mm, IPC Low Density)
pins: 1 D "drain", 2 D "drain", 3 G "gate", 4 S "source", 5 D "drain", 6 D "drain", 7 D "drain", 8 S "source"
text: 1, 2, 5-7; 4, 8

## PMPB20ENZ
designator Q?
N-Channel Trench MOSFET, 30 V, -55 to 150 degC, 8-Pin SOT1220, Reel; Manufacturer: NXP Semiconductors; PartNumber: PMPB20ENZ; Channel Type: N; Ciss [typ] (pF): 435; Coss [typ] (pF): 90; VDS [max] (V): 30; VGSth [typ] (V): 1.5; DatasheetVersion: Rev. 2; PackageVersion: 12-04-30, 04/2012; PackageReference: SOT1220; PackageDescription: 6-Pin Small Outline No-Lead, Body 2 x 2 mm, Pitch 0.65 mm; Supplier 1: Digi-Key; Supplier Part Number 1: PMPB20ENZ-ND; Supplier 2: Newark; Supplier Part Number 2: 08X6747; Supplier 3: Mouser; Supplier Part Number 3: N/A; Packing: Reel; Mounting Technology: Surface Mount; ComponentLink1Description: Manufacturer URL; ComponentLink1URL: http://www.nxp.com/; ComponentLink2Description: Datasheet; ComponentLink2URL: http://www.nxp.com/documents/data_sheet/PMPB20EN.pdf; ComponentLink3Description: Package Specification; ComponentLink3URL: http://www.nxp.com/documents/outline_drawing/sot1220_po.pdf
footprint NXP-SOT1220_N (SON, 6-Leads, Body 2.1x2.1mm, Pitch 0.65mm, IPC Medium Density)
footprint NXP-SOT1220_L (SON, 6-Leads, Body 2.1x2.1mm, Pitch 0.65mm, IPC High Density)
footprint NXP-SOT1220_M (SON, 6-Leads, Body 2.1x2.1mm, Pitch 0.65mm, IPC Low Density)
pins: 1 D "drain", 2 D "drain", 3 G "gate", 4 S "source", 5 D "drain", 6 D "drain", 7 D "drain", 8 S "source"
text: 1, 2, 5-7; 4, 8

## PMPB20UN,115
designator Q?
Single N-Channel Trench MOSFET, 20 V, -55 to 150 degC, 8-Pin SOT1220, Reel; Manufacturer: NXP Semiconductors; PartNumber: PMPB20UN,115; Channel Type: N; Ciss [typ] (pF): 460; Coss [typ] (pF): 135; VDS [max] (V): 20; VGSth [typ] (V): 0.7; DatasheetVersion: Rev. 1; PackageVersion: 12-04-30, 04/2012; PackageReference: SOT1220; PackageDescription: 6-Pin Small Outline No-Lead, Body 2 x 2 mm, Pitch 0.65 mm; Supplier 1: Digi-Key; Supplier Part Number 1: 568-10816-2-ND; Supplier 2: Digi-Key; Supplier Part Number 2: 568-10816-1-ND; Supplier 3: Digi-Key; Supplier Part Number 3: 568-10816-6-ND; Supplier 4: Mouser; Supplier Part Number 4: 771-PMPB20UN115; Packing: Reel; Mounting Technology: Surface Mount; ComponentLink1Description: Manufacturer URL; ComponentLink1URL: http://www.nxp.com/; ComponentLink2Description: Datasheet; ComponentLink2URL: http://www.nxp.com/documents/data_sheet/PMPB20UN.pdf; ComponentLink3Description: Package Specification; ComponentLink3URL: http://www.nxp.com/documents/outline_drawing/sot1220_po.pdf
footprint NXP-SOT1220_N (SON, 6-Leads, Body 2.1x2.1mm, Pitch 0.65mm, IPC Medium Density)
footprint NXP-SOT1220_L (SON, 6-Leads, Body 2.1x2.1mm, Pitch 0.65mm, IPC High Density)
footprint NXP-SOT1220_M (SON, 6-Leads, Body 2.1x2.1mm, Pitch 0.65mm, IPC Low Density)
pins: 1 D "drain", 2 D "drain", 3 G "gate", 4 S "source", 5 D "drain", 6 D "drain", 7 D "drain", 8 S "source"
text: 1, 2, 5-7; 4, 8

## PMPB20XPE,115
designator Q?
Single P-Channel Trench MOSFET, -20 V, -55 to 150 degC, 8-Pin SOT1220, Reel; Manufacturer: NXP Semiconductors; PartNumber: PMPB20XPE,115; Channel Type: P; Ciss [typ] (pF): 2945; Coss [typ] (pF): 245; VGSth [typ] (V): -0.68; DatasheetVersion: Rev. 1; PackageVersion: 12-04-30, 04/2012; PackageReference: SOT1220; PackageDescription: 6-Pin Small Outline No-Lead, Body 2 x 2 mm, Pitch 0.65 mm; Supplier 1: Digi-Key; Supplier Part Number 1: 568-10817-2-ND; Supplier 2: Digi-Key; Supplier Part Number 2: 568-10817-1-ND; Supplier 3: Digi-Key; Supplier Part Number 3: 568-10817-6-ND; Supplier 4: Mouser; Supplier Part Number 4: 771-PMPB20XPE115; Packing: Reel; VDS [max] (V): -20; Mounting Technology: Surface Mount; ComponentLink1Description: Manufacturer URL; ComponentLink1URL: http://www.nxp.com/; ComponentLink2Description: Datasheet; ComponentLink2URL: http://www.nxp.com/documents/data_sheet/PMPB20XPE.pdf; ComponentLink3Description: Package Specification; ComponentLink3URL: http://www.nxp.com/documents/outline_drawing/sot1220_po.pdf
footprint NXP-SOT1220_N (SON, 6-Leads, Body 2.1x2.1mm, Pitch 0.65mm, IPC Medium Density)
footprint NXP-SOT1220_L (SON, 6-Leads, Body 2.1x2.1mm, Pitch 0.65mm, IPC High Density)
footprint NXP-SOT1220_M (SON, 6-Leads, Body 2.1x2.1mm, Pitch 0.65mm, IPC Low Density)
pins: 1 D "drain", 2 D "drain", 3 G "gate", 4 S "source", 5 D "drain", 6 D "drain", 7 D "drain", 8 S "source"
text: 1, 2, 5-7; 4, 8

## PMPB23XNE,115
designator Q?
Single N-Channel Trench MOSFET, 20 V, -55 to 150 degC, 8-Pin SOT1220, Reel; Manufacturer: NXP Semiconductors; PartNumber: PMPB23XNE,115; Channel Type: N; Ciss [typ] (pF): 1136; Coss [typ] (pF): 137; VDS [max] (V): 20; VGSth [typ] (V): 0.65; DatasheetVersion: Rev. 1; PackageVersion: 12-04-30, 04/2012; PackageReference: SOT1220; PackageDescription: 6-Pin Small Outline No-Lead, Body 2 x 2 mm, Pitch 0.65 mm; Supplier 1: Digi-Key; Supplier Part Number 1: 568-10818-2-ND; Supplier 2: Digi-Key; Supplier Part Number 2: 568-10818-1-ND; Supplier 3: Digi-Key; Supplier Part Number 3: 568-10818-6-ND; Supplier 4: Mouser; Supplier Part Number 4: 771-PMPB23XNE115; Packing: Reel; Mounting Technology: Surface Mount; ComponentLink1Description: Manufacturer URL; ComponentLink1URL: http://www.nxp.com/; ComponentLink2Description: Datasheet; ComponentLink2URL: http://www.nxp.com/documents/data_sheet/PMPB23XNE.pdf; ComponentLink3Description: Package Specification; ComponentLink3URL: http://www.nxp.com/documents/outline_drawing/sot1220_po.pdf
footprint NXP-SOT1220_N (SON, 6-Leads, Body 2.1x2.1mm, Pitch 0.65mm, IPC Medium Density)
footprint NXP-SOT1220_L (SON, 6-Leads, Body 2.1x2.1mm, Pitch 0.65mm, IPC High Density)
footprint NXP-SOT1220_M (SON, 6-Leads, Body 2.1x2.1mm, Pitch 0.65mm, IPC Low Density)
pins: 1 D "drain", 2 D "drain", 3 G "gate", 4 S "source", 5 D "drain", 6 D "drain", 7 D "drain", 8 S "source"
text: 1, 2, 5-7; 4, 8

## PMPB27EP,115
designator Q?
Single P-Channel Trench MOSFET, -30 V, -55 to 150 degC, 8-Pin SOT1220, Reel; Manufacturer: NXP Semiconductors; PartNumber: PMPB27EP,115; Channel Type: P; Ciss [typ] (pF): 1570; Coss [typ] (pF): 170; VGSth [typ] (V): -1.5; DatasheetVersion: Rev. 1; PackageVersion: 12-04-30, 04/2012; PackageReference: SOT1220; PackageDescription: 6-Pin Small Outline No-Lead, Body 2 x 2 mm, Pitch 0.65 mm; Supplier 1: Digi-Key; Supplier Part Number 1: 568-10819-2-ND; Supplier 2: Digi-Key; Supplier Part Number 2: 568-10819-1-ND; Supplier 3: Digi-Key; Supplier Part Number 3: 568-10819-6-ND; Supplier 4: Newark; Supplier Part Number 4: 70W0380; Supplier 5: Mouser; Supplier Part Number 5: 771-PMPB27EP115; Packing: Reel; VDS [max] (V): -30; Mounting Technology: Surface Mount; ComponentLink1Description: Manufacturer URL; ComponentLink1URL: http://www.nxp.com/; ComponentLink2Description: Datasheet; ComponentLink2URL: http://www.nxp.com/documents/data_sheet/PMPB27EP.pdf; ComponentLink3Description: Package Specification; ComponentLink3URL: http://www.nxp.com/documents/outline_drawing/sot1220_po.pdf
footprint NXP-SOT1220_N (SON, 6-Leads, Body 2.1x2.1mm, Pitch 0.65mm, IPC Medium Density)
footprint NXP-SOT1220_L (SON, 6-Leads, Body 2.1x2.1mm, Pitch 0.65mm, IPC High Density)
footprint NXP-SOT1220_M (SON, 6-Leads, Body 2.1x2.1mm, Pitch 0.65mm, IPC Low Density)
pins: 1 D "drain", 2 D "drain", 3 G "gate", 4 S "source", 5 D "drain", 6 D "drain", 7 D "drain", 8 S "source"
text: 1, 2, 5-7; 4, 8

## PMPB29XNE,115
designator Q?
Single N-Channel Trench MOSFET, 30 V, -55 to 150 degC, 8-Pin SOT1220, Reel; Manufacturer: NXP Semiconductors; PartNumber: PMPB29XNE,115; Channel Type: N; Ciss [typ] (pF): 1150; Coss [typ] (pF): 110; VDS [max] (V): 30; VGSth [typ] (V): 0.65; DatasheetVersion: Rev. 1; PackageVersion: 12-04-30, 04/2012; PackageReference: SOT1220; PackageDescription: 6-Pin Small Outline No-Lead, Body 2 x 2 mm, Pitch 0.65 mm; Supplier 1: Digi-Key; Supplier Part Number 1: 568-10820-2-ND; Supplier 2: Digi-Key; Supplier Part Number 2: 568-10820-1-ND; Supplier 3: Digi-Key; Supplier Part Number 3: 568-10820-6-ND; Supplier 4: Mouser; Supplier Part Number 4: 771-PMPB29XNE115; Packing: Reel; Mounting Technology: Surface Mount; ComponentLink1Description: Manufacturer URL; ComponentLink1URL: http://www.nxp.com/; ComponentLink2Description: Datasheet; ComponentLink2URL: http://www.nxp.com/documents/data_sheet/PMPB29XNE.pdf; ComponentLink3Description: Package Specification; ComponentLink3URL: http://www.nxp.com/documents/outline_drawing/sot1220_po.pdf
footprint NXP-SOT1220_N (SON, 6-Leads, Body 2.1x2.1mm, Pitch 0.65mm, IPC Medium Density)
footprint NXP-SOT1220_L (SON, 6-Leads, Body 2.1x2.1mm, Pitch 0.65mm, IPC High Density)
footprint NXP-SOT1220_M (SON, 6-Leads, Body 2.1x2.1mm, Pitch 0.65mm, IPC Low Density)
pins: 1 D "drain", 2 D "drain", 3 G "gate", 4 S "source", 5 D "drain", 6 D "drain", 7 D "drain", 8 S "source"
text: 1, 2, 5-7; 4, 8

## PMPB29XPE,115
designator Q?
Single P-Channel Trench MOSFET, -20 V, -5 A, -55 to 150 degC, 8-Pin SOT1220, Reel; Manufacturer: NXP Semiconductors; PartNumber: PMPB29XPE,115; Channel Type: P; Ciss [typ] (pF): 2970; Coss [typ] (pF): 245; VGSth [typ] (V): -0.68; DatasheetVersion: Rev. 1; PackageVersion: 12-04-30, 04/2012; PackageReference: SOT1220; PackageDescription: 6-Pin Small Outline No-Lead, Body 2 x 2 mm, Pitch 0.65 mm; Supplier 1: Digi-Key; Supplier Part Number 1: 568-10821-2-ND; Supplier 2: Digi-Key; Supplier Part Number 2: 568-10821-1-ND; Supplier 3: Digi-Key; Supplier Part Number 3: 568-10821-6-ND; Supplier 4: Mouser; Supplier Part Number 4: 771-PMPB29XPE115; ID [max] (A): -5; Packing: Reel; VDS [max] (V): -20; Mounting Technology: Surface Mount; ComponentLink1Description: Manufacturer URL; ComponentLink1URL: http://www.nxp.com/; ComponentLink2Description: Datasheet; ComponentLink2URL: http://www.nxp.com/documents/data_sheet/PMPB29XPE.pdf; ComponentLink3Description: Package Specification; ComponentLink3URL: http://www.nxp.com/documents/outline_drawing/sot1220_po.pdf
footprint NXP-SOT1220_N (SON, 6-Leads, Body 2.1x2.1mm, Pitch 0.65mm, IPC Medium Density)
footprint NXP-SOT1220_L (SON, 6-Leads, Body 2.1x2.1mm, Pitch 0.65mm, IPC High Density)
footprint NXP-SOT1220_M (SON, 6-Leads, Body 2.1x2.1mm, Pitch 0.65mm, IPC Low Density)
pins: 1 D "drain", 2 D "drain", 3 G "gate", 4 S "source", 5 D "drain", 6 D "drain", 7 D "drain", 8 S "source"
text: 1, 2, 5-7; 4, 8

## PMPB33XN,115
designator Q?
Single N-Channel Trench MOSFET, 30 V, -55 to 150 degC, 8-Pin SOT1220, Reel; Manufacturer: NXP Semiconductors; PartNumber: PMPB33XN,115; Channel Type: N; Ciss [typ] (pF): 505; Coss [typ] (pF): 57; VDS [max] (V): 30; VGSth [typ] (V): 0.8; DatasheetVersion: Rev. 1; PackageVersion: 12-04-30, 04/2012; PackageReference: SOT1220; PackageDescription: 6-Pin Small Outline No-Lead, Body 2 x 2 mm, Pitch 0.65 mm; Supplier 1: Digi-Key; Supplier Part Number 1: 568-10822-2-ND; Supplier 2: Digi-Key; Supplier Part Number 2: 568-10822-1-ND; Supplier 3: Digi-Key; Supplier Part Number 3: 568-10822-6-ND; Supplier 4: Mouser; Supplier Part Number 4: 771-PMPB33XN115; Packing: Reel; Mounting Technology: Surface Mount; ComponentLink1Description: Manufacturer URL; ComponentLink1URL: http://www.nxp.com/; ComponentLink2Description: Datasheet; ComponentLink2URL: http://www.nxp.com/documents/data_sheet/PMPB33XN.pdf; ComponentLink3Description: Package Specification; ComponentLink3URL: http://www.nxp.com/documents/outline_drawing/sot1220_po.pdf
footprint NXP-SOT1220_N (SON, 6-Leads, Body 2.1x2.1mm, Pitch 0.65mm, IPC Medium Density)
footprint NXP-SOT1220_L (SON, 6-Leads, Body 2.1x2.1mm, Pitch 0.65mm, IPC High Density)
footprint NXP-SOT1220_M (SON, 6-Leads, Body 2.1x2.1mm, Pitch 0.65mm, IPC Low Density)
pins: 1 D "drain", 2 D "drain", 3 G "gate", 4 S "source", 5 D "drain", 6 D "drain", 7 D "drain", 8 S "source"
text: 1, 2, 5-7; 4, 8

## PMPB33XP,115
designator Q?
Single P-Channel Trench MOSFET, -20 V, -55 to 150 degC, 8-Pin SOT1220, Reel; Manufacturer: NXP Semiconductors; PartNumber: PMPB33XP,115; Channel Type: P; Ciss [typ] (pF): 1575; Coss [typ] (pF): 145; VGSth [typ] (V): -0.68; DatasheetVersion: Rev. 1; PackageVersion: 12-04-30, 04/2012; PackageReference: SOT1220; PackageDescription: 6-Pin Small Outline No-Lead, Body 2 x 2 mm, Pitch 0.65 mm; Supplier 1: Digi-Key; Supplier Part Number 1: 568-10445-2-ND; Supplier 2: Digi-Key; Supplier Part Number 2: 568-10445-1-ND; Supplier 3: Digi-Key; Supplier Part Number 3: 568-10445-6-ND; Supplier 4: Mouser; Supplier Part Number 4: 771-PMPB33XP115; Packing: Reel; VDS [max] (V): -20; Mounting Technology: Surface Mount; ComponentLink1Description: Manufacturer URL; ComponentLink1URL: http://www.nxp.com/; ComponentLink2Description: Datasheet; ComponentLink2URL: http://www.nxp.com/documents/data_sheet/PMPB33XP.pdf; ComponentLink3Description: Package Specification; ComponentLink3URL: http://www.nxp.com/documents/outline_drawing/sot1220_po.pdf
footprint NXP-SOT1220_N (SON, 6-Leads, Body 2.1x2.1mm, Pitch 0.65mm, IPC Medium Density)
footprint NXP-SOT1220_L (SON, 6-Leads, Body 2.1x2.1mm, Pitch 0.65mm, IPC High Density)
footprint NXP-SOT1220_M (SON, 6-Leads, Body 2.1x2.1mm, Pitch 0.65mm, IPC Low Density)
pins: 1 D "drain", 2 D "drain", 3 G "gate", 4 S "source", 5 D "drain", 6 D "drain", 7 D "drain", 8 S "source"
text: 1, 2, 5-7; 4, 8

## PMPB43XPE,115
designator Q?
Single P-Channel Trench MOSFET, -20 V, -5 A, -55 to 150 degC, 8-Pin SOT1220, Reel; Manufacturer: NXP Semiconductors; PartNumber: PMPB43XPE,115; Channel Type: P; Ciss [typ] (pF): 1550; Coss [typ] (pF): 142; VGSth [typ] (V): -0.68; DatasheetVersion: Rev. 1; PackageVersion: 12-04-30, 04/2012; PackageReference: SOT1220; PackageDescription: 6-Pin Small Outline No-Lead, Body 2 x 2 mm, Pitch 0.65 mm; Supplier 1: Digi-Key; Supplier Part Number 1: 568-10823-2-ND; Supplier 2: Digi-Key; Supplier Part Number 2: 568-10823-1-ND; Supplier 3: Digi-Key; Supplier Part Number 3: 568-10823-6-ND; Supplier 4: Mouser; Supplier Part Number 4: 771-PMPB43XPE115; ID [max] (A): -5; Packing: Reel; VDS [max] (V): -20; Mounting Technology: Surface Mount; ComponentLink1Description: Manufacturer URL; ComponentLink1URL: http://www.nxp.com/; ComponentLink2Description: Datasheet; ComponentLink2URL: http://www.nxp.com/documents/data_sheet/PMPB43XPE.pdf; ComponentLink3Description: Package Specification; ComponentLink3URL: http://www.nxp.com/documents/outline_drawing/sot1220_po.pdf
footprint NXP-SOT1220_N (SON, 6-Leads, Body 2.1x2.1mm, Pitch 0.65mm, IPC Medium Density)
footprint NXP-SOT1220_L (SON, 6-Leads, Body 2.1x2.1mm, Pitch 0.65mm, IPC High Density)
footprint NXP-SOT1220_M (SON, 6-Leads, Body 2.1x2.1mm, Pitch 0.65mm, IPC Low Density)
pins: 1 D "drain", 2 D "drain", 3 G "gate", 4 S "source", 5 D "drain", 6 D "drain", 7 D "drain", 8 S "source"
text: 1, 2, 5-7; 4, 8

## PMPB47XP,115
designator Q?
Single P-Channel Trench MOSFET, -30 V, -55 to 150 degC, 8-Pin SOT1220, Reel; Manufacturer: NXP Semiconductors; PartNumber: PMPB47XP,115; Channel Type: P; Ciss [typ] (pF): 1365; Coss [typ] (pF): 105; VGSth [typ] (V): -0.68; DatasheetVersion: Rev. 1; PackageVersion: 12-04-30, 04/2012; PackageReference: SOT1220; PackageDescription: 6-Pin Small Outline No-Lead, Body 2 x 2 mm, Pitch 0.65 mm; Supplier 1: Digi-Key; Supplier Part Number 1: 568-10824-2-ND; Supplier 2: Digi-Key; Supplier Part Number 2: 568-10824-1-ND; Supplier 3: Digi-Key; Supplier Part Number 3: 568-10824-6-ND; Supplier 4: Mouser; Supplier Part Number 4: 771-PMPB47XP115; Packing: Reel; VDS [max] (V): -30; Mounting Technology: Surface Mount; ComponentLink1Description: Manufacturer URL; ComponentLink1URL: http://www.nxp.com/; ComponentLink2Description: Datasheet; ComponentLink2URL: http://www.nxp.com/documents/data_sheet/PMPB47XP.pdf; ComponentLink3Description: Package Specification; ComponentLink3URL: http://www.nxp.com/documents/outline_drawing/sot1220_po.pdf
footprint NXP-SOT1220_N (SON, 6-Leads, Body 2.1x2.1mm, Pitch 0.65mm, IPC Medium Density)
footprint NXP-SOT1220_L (SON, 6-Leads, Body 2.1x2.1mm, Pitch 0.65mm, IPC High Density)
footprint NXP-SOT1220_M (SON, 6-Leads, Body 2.1x2.1mm, Pitch 0.65mm, IPC Low Density)
pins: 1 D "drain", 2 D "drain", 3 G "gate", 4 S "source", 5 D "drain", 6 D "drain", 7 D "drain", 8 S "source"
text: 1, 2, 5-7; 4, 8

## PMPB48EP,115
designator Q?
Single P-Channel Trench MOSFET, -30 V, -55 to 150 degC, 8-Pin SOT1220, Reel; Manufacturer: NXP Semiconductors; PartNumber: PMPB48EP,115; Channel Type: P; Ciss [typ] (pF): 860; Coss [typ] (pF): 105; VGSth [typ] (V): -1.5; DatasheetVersion: Rev. 1; PackageVersion: 12-04-30, 04/2012; PackageReference: SOT1220; PackageDescription: 6-Pin Small Outline No-Lead, Body 2 x 2 mm, Pitch 0.65 mm; Supplier 1: Digi-Key; Supplier Part Number 1: 568-10447-2-ND; Supplier 2: Digi-Key; Supplier Part Number 2: 568-10447-1-ND; Supplier 3: Digi-Key; Supplier Part Number 3: 568-10447-6-ND; Supplier 4: Mouser; Supplier Part Number 4: 771-PMPB48EP115; Packing: Reel; VDS [max] (V): -30; Mounting Technology: Surface Mount; ComponentLink1Description: Manufacturer URL; ComponentLink1URL: http://www.nxp.com/; ComponentLink2Description: Datasheet; ComponentLink2URL: http://www.nxp.com/documents/data_sheet/PMPB48EP.pdf; ComponentLink3Description: Package Specification; ComponentLink3URL: http://www.nxp.com/documents/outline_drawing/sot1220_po.pdf
footprint NXP-SOT1220_N (SON, 6-Leads, Body 2.1x2.1mm, Pitch 0.65mm, IPC Medium Density)
footprint NXP-SOT1220_L (SON, 6-Leads, Body 2.1x2.1mm, Pitch 0.65mm, IPC High Density)
footprint NXP-SOT1220_M (SON, 6-Leads, Body 2.1x2.1mm, Pitch 0.65mm, IPC Low Density)
pins: 1 D "drain", 2 D "drain", 3 G "gate", 4 S "source", 5 D "drain", 6 D "drain", 7 D "drain", 8 S "source"
text: 1, 2, 5-7; 4, 8

## PMR280UN,115
designator Q?
N-Channel TrenchMOS Ultra Low Level FET, 20 V, 0.98 A, 3-Pin SOT416, Tape and Reel; Manufacturer: NXP Semiconductors; PartNumber: PMR280UN,115; Channel Type: N; Ciss [typ] (pF): 45; Coss [typ] (pF): 11; ID [max] (A): 0.98; Packing: Tape & Reel; VDS [max] (V): 20; VGSth [typ] (V): 0.7; DatasheetVersion: Rev. 2; PackageVersion: 06-03-16, 03/2006; PackageReference: SOT416_B; PackageDescription: 3-Pin Small Outline Transistor Package, Body 1.6 x 0.8 mm, Pitch 0.5 mm; Supplier 1: Digi-Key; Supplier Part Number 1: 568-6833-2-ND; Supplier 2: Digi-Key; Supplier Part Number 2: 568-6833-1-ND; Supplier 3: Digi-Key; Supplier Part Number 3: 568-6833-6-ND; Supplier 4: Farnell; Supplier Part Number 4: 1758110; Supplier 5: Farnell; Supplier Part Number 5: 1758110RL; Supplier 6: Farnell; Supplier Part Number 6: 2147053; Supplier 7: Newark; Supplier Part Number 7: 75R4834; Supplier 8: Mouser; Supplier Part Number 8: 771-PMR280UN115; Mounting Technology: Surface Mount; Code_JEITA: SC-75; ComponentLink1Description: Manufacturer URL; ComponentLink1URL: http://www.nxp.com/; ComponentLink2Description: Datasheet; ComponentLink2URL: http://www.nxp.com/documents/data_sheet/PMR280UN.pdf; ComponentLink3Description: Package Specification; ComponentLink3URL: http://www.nxp.com/documents/data_sheet/2N7002PT.pdf
footprint NXP-SOT416_B_N (SOT23, 3-Leads, Body 1.6x0.8mm, Pitch 0.5mm, IPC Medium Density)
footprint NXP-SOT416_B_L (SOT23, 3-Leads, Body 1.6x0.8mm, Pitch 0.5mm, IPC High Density)
footprint NXP-SOT416_B_M (SOT23, 3-Leads, Body 1.6x0.8mm, Pitch 0.5mm, IPC Low Density)
pins: 1 G "gate", 2 S "source", 3 D "drain"

## PMR400UN,115
designator Q?
N-Channel TrenchMOS Ultra Low Level FET, 30 V, 0.8 A, 3-Pin SOT416, Tape and Reel; Manufacturer: NXP Semiconductors; PartNumber: PMR400UN,115; Channel Type: N; Ciss [typ] (pF): 43; Coss [typ] (pF): 7.7; ID [max] (A): 0.8; Packing: Tape & Reel; VDS [max] (V): 30; VGSth [typ] (V): 0.7; DatasheetVersion: Rev. 2; PackageVersion: 06-03-16, 03/2006; PackageReference: SOT416_B; PackageDescription: 3-Pin Small Outline Transistor Package, Body 1.6 x 0.8 mm, Pitch 0.5 mm; Supplier 1: Digi-Key; Supplier Part Number 1: 568-7438-2-ND; Supplier 2: Digi-Key; Supplier Part Number 2: 568-7438-1-ND; Supplier 3: Digi-Key; Supplier Part Number 3: 568-7438-6-ND; Supplier 4: Farnell; Supplier Part Number 4: 1758113; Supplier 5: Farnell; Supplier Part Number 5: 1758113RL; Supplier 6: Newark; Supplier Part Number 6: 79R2046; Supplier 7: Mouser; Supplier Part Number 7: 771-PMR400UN115; Mounting Technology: Surface Mount; Code_JEITA: SC-75; ComponentLink1Description: Manufacturer URL; ComponentLink1URL: http://www.nxp.com/; ComponentLink2Description: Datasheet; ComponentLink2URL: http://www.nxp.com/documents/data_sheet/PMR400UN.pdf; ComponentLink3Description: Package Specification; ComponentLink3URL: http://www.nxp.com/documents/data_sheet/2N7002PT.pdf
footprint NXP-SOT416_B_N (SOT23, 3-Leads, Body 1.6x0.8mm, Pitch 0.5mm, IPC Medium Density)
footprint NXP-SOT416_B_L (SOT23, 3-Leads, Body 1.6x0.8mm, Pitch 0.5mm, IPC High Density)
footprint NXP-SOT416_B_M (SOT23, 3-Leads, Body 1.6x0.8mm, Pitch 0.5mm, IPC Low Density)
pins: 1 G "gate", 2 S "source", 3 D "drain"

## PMR780SN,115
designator Q?
N-Channel uTrenchMOS(TM) Standard Level FET, 60 V, 0.55 A, 3-Pin SOT416, Tape and Reel; Manufacturer: NXP Semiconductors; PartNumber: PMR780SN,115; Channel Type: N; Ciss [typ] (pF): 23; Coss [typ] (pF): 5; ID [max] (A): 0.55; Packing: Tape & Reel; VDS [max] (V): 60; VGSth [typ] (V): 2; DatasheetVersion: Rev. 01; PackageVersion: 06-03-16, 03/2006; PackageReference: SOT416_B; PackageDescription: 3-Pin Small Outline Transistor Package, Body 1.6 x 0.8 mm, Pitch 0.5 mm; Supplier 1: Digi-Key; Supplier Part Number 1: PMR780SN,115-ND; Supplier 2: Newark; Supplier Part Number 2: 79R2047; Supplier 3: Mouser; Supplier Part Number 3: 771-PMR780SN115; Mounting Technology: Surface Mount; Code_JEITA: SC-75; ComponentLink1Description: Manufacturer URL; ComponentLink1URL: http://www.nxp.com/; ComponentLink2Description: Datasheet; ComponentLink2URL: http://www.nxp.com/documents/data_sheet/PMR780SN.pdf; ComponentLink3Description: Package Specification; ComponentLink3URL: http://www.nxp.com/documents/data_sheet/2N7002PT.pdf
footprint NXP-SOT416_B_N (SOT23, 3-Leads, Body 1.6x0.8mm, Pitch 0.5mm, IPC Medium Density)
footprint NXP-SOT416_B_L (SOT23, 3-Leads, Body 1.6x0.8mm, Pitch 0.5mm, IPC High Density)
footprint NXP-SOT416_B_M (SOT23, 3-Leads, Body 1.6x0.8mm, Pitch 0.5mm, IPC Low Density)
pins: 1 G "gate", 2 S "source", 3 D "drain"